# Altium footprint library Smart_Gateway_Rev1.0.PcbLib: 49 footprints (part 2 of 4)
Each footprint in its own frame and in the unit in brackets; x right, y up, seen from the top. Pads: shape width x height; smd on the part's side, far side on the other; paste and mask are expansions set on the pad; w line width, h text height; cw(c..) or ccw(c..) is an arc to the next point about the centre after c.
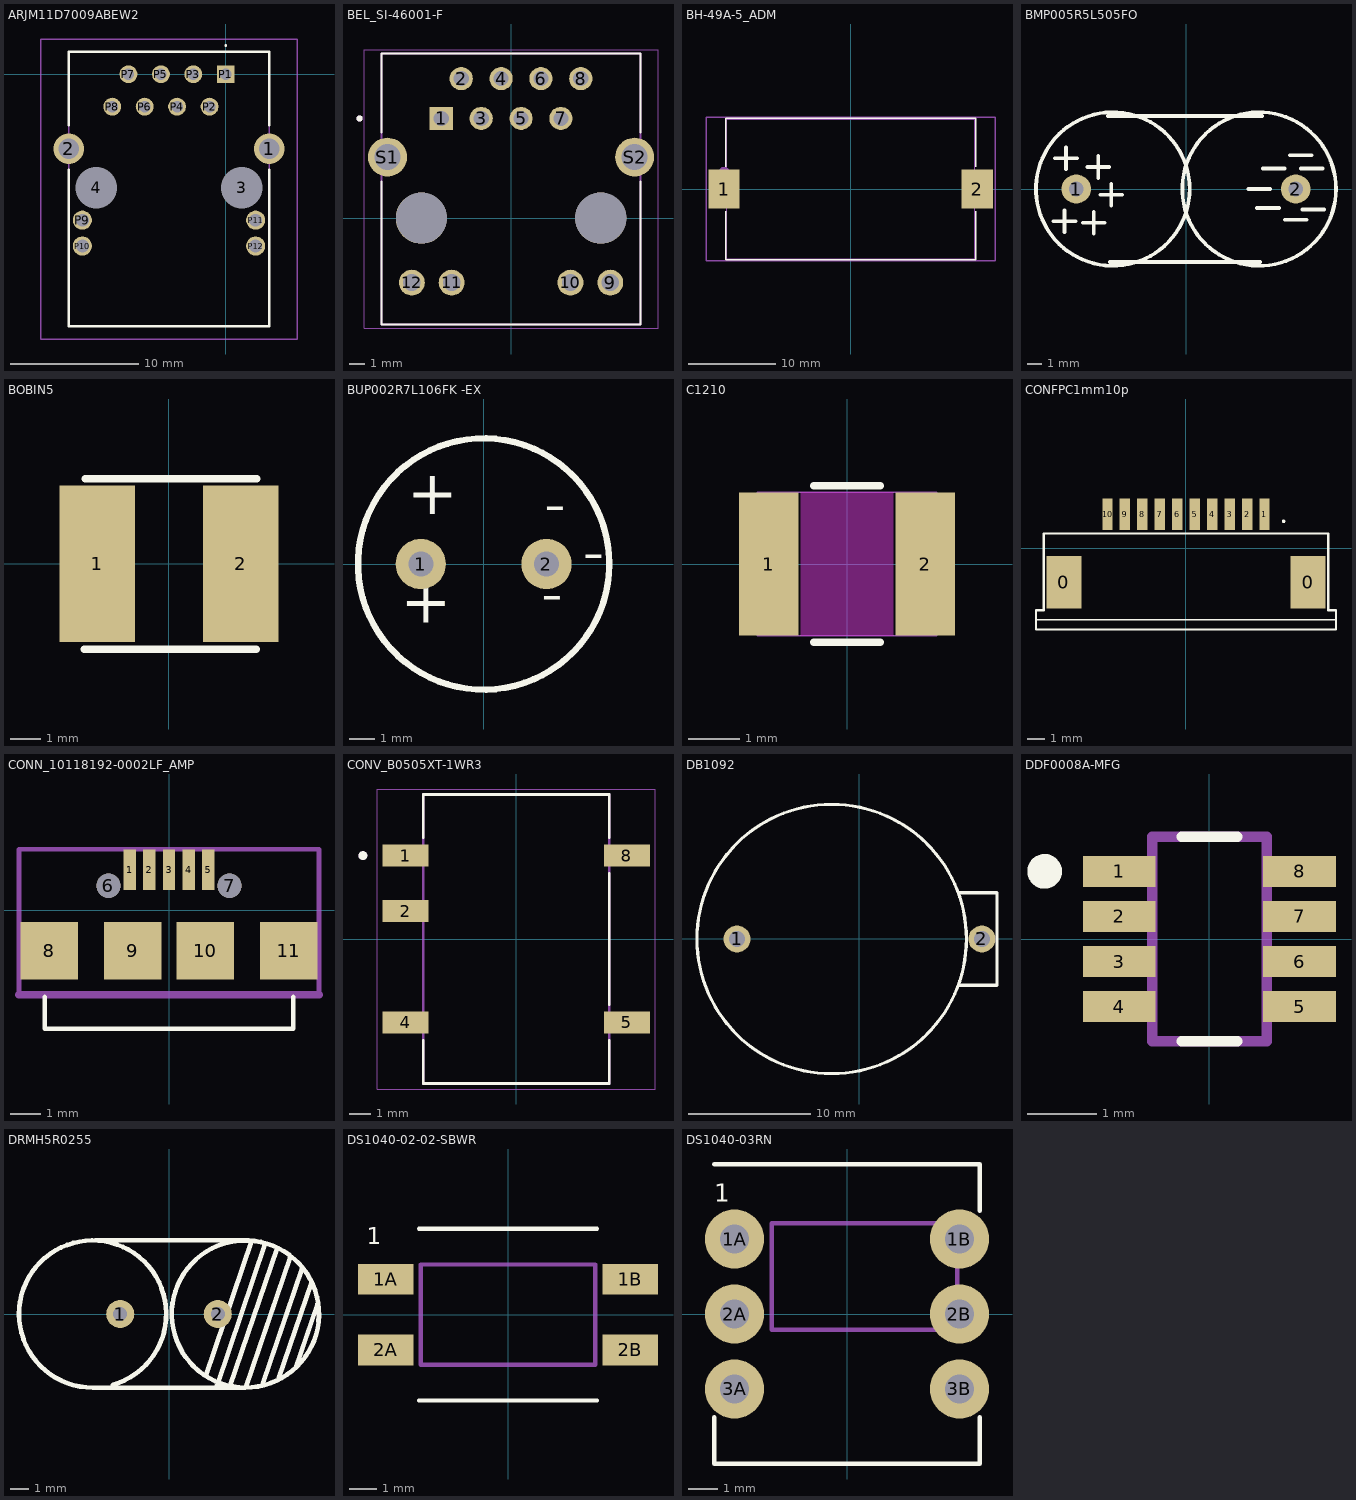
[diagram p1: the footprints below, top view; thin cyan lines are the x and y axes]

## ARJM11D7009ABEW2 [mm]
pads (16):
  round 2.4 hole 1.6: 1(3.405,-5.84) 2(-12.295,-5.84)
  round 1.625 hole 3.25 unplated: 3(1.27,-8.89) 4(-10.16,-8.89)
  rect 1.4x1.4 hole 0.9: P1(0,0)
  round 1.4 hole 0.9: P2(-1.27,-2.54) P3(-2.54,0) P4(-3.81,-2.54) P5(-5.08,0) P6(-6.35,-2.54) P7(-7.62,0) P8(-8.89,-2.54)
  round 1.5 hole 1: P9(-11.23,-11.43) P10(-11.23,-13.46) P11(2.34,-11.43) P12(2.34,-13.46)
Top Overlay:
  lines w0.1: 0,2.2 ccw(c0,2.25) 0,2.3 ccw(c0,2.25) 0,2.2
  lines w0.2: -12.295,-7.5 -12.295,-19.74 3.405,-19.74 3.405,-7.5 ; -12.295,-4 -12.295,1.76 3.405,1.76 3.405,-4
Mechanical 13:
  lines w0.1: -12.295,-19.74 3.405,-19.74 3.405,1.76 -12.295,1.76 -12.295,-19.74
Mechanical 15:
  lines w0.1: -14.495,-20.74 5.605,-20.74 5.605,2.76 -14.495,2.76 -14.495,-20.74
3D body "ARJM11D7-009-AB-EW2.stp": height 13.8, standoff -3.6, extent -12.44,-19.685 3.54,1.965

## BEL_SI-46001-F [mm]
pads (16):
  rect 1.478x1.478 hole 0.97: 1(-4.445,6.35)
  round 1.478 hole 0.97: 2(-3.175,8.89) 3(-1.905,6.35) 4(-0.635,8.89) 5(0.635,6.35) 6(1.905,8.89) 7(3.175,6.35) 8(4.445,8.89)
  round 1.65 hole 1.1: 9(6.325,-4.11) 10(3.785,-4.11) 11(-3.785,-4.11) 12(-6.325,-4.11)
  round 2.475 hole 1.65: S1(-7.875,3.89) S2(7.875,3.89)
  round 3.26 hole 3.26 unplated: ""(-5.715,0) ""(5.715,0)
Top Overlay:
  circle w0.2: c-9.655,6.35 r0.1
  lines w0.127: -8.255,2.33 -8.255,-6.78 8.255,-6.78 8.255,2.33 ; -8.255,5.45 -8.255,10.49 8.255,10.49 8.255,5.45
Mechanical 13:
  circle w0.2: c-9.655,6.35 r0.1
  lines w0.127: -8.255,-6.78 8.255,-6.78 8.255,10.49 -8.255,10.49 -8.255,-6.78
Mechanical 15:
  lines w0.05: -9.365,-7.03 9.365,-7.03 9.365,10.74 -9.365,10.74 -9.365,-7.03
3D body "SI-46001-F--3DModel-STEP-56544.STEP": height 17.27, standoff -4.19, extent -8.128,-6.731 8.128,10.287

## BH-49A-5_ADM [mil]
pads (2):
  rect 142x177 smd paste+0 mask+0: 1(-572.83,0) 2(572.83,0)
Top Overlay:
  lines w6: -566,-101.6 -566,-320 566,-320 566,-101.6 ; -566,101.6 -566,320 566,320 566,101.6
Bottom Overlay:
  circle w20: c-680,10 r15
Mechanical 13:
  circle w20: c-572.83,75 r15
  lines w1: -561,-315 -561,315 561,315 561,-315 -561,-315
Mechanical 15:
  lines w6: -653.83,-325 653.83,-325 653.83,325 -653.83,325 -653.83,-325
3D body "bh-49a-5.stp": height 216.54, standoff 0, extent -617.13,-314.96 623.03,314.96

## BMP005R5L505FO [mm]
pads (2):
  round 2 hole 1: 1(-7.5,0) 2(7.5,0)
Top Overlay:
  circle w0.254: c5,0 r5.25
  circle w0.254: c-5,0 r5.25
  lines w0.254: -9.05,-2.2 -7.55,-2.2 ; -8.95,2.1 -7.45,2.1 ; -8.3,-2.95 -8.3,-1.45 ; -8.2,1.35 -8.2,2.85 ; -7.05,-2.3 -5.55,-2.3 ; -6.75,1.5 -5.25,1.5 ; -6.3,-3.05 -6.3,-1.55 ; -6,0.75 -6,2.25 ; -5.85,-0.4 -4.35,-0.4 ; -5.328,4.988 5.192,4.988 ; -5.212,-4.988 5.075,-4.988 ; -5.1,-1.15 -5.1,0.35 ; 4.25,0 5.75,0 ; 4.85,-1.3 6.35,-1.3 ; 5.25,1.4 6.75,1.4 ; 6.75,-2.1 8.25,-2.1 ; 7.1,2.3 8.6,2.3 ; 7.85,1.4 9.35,1.4 ; 7.95,-1.4 9.45,-1.4
3D body: height 26, standoff 0, extent -5.9,-5.3 5.7,5.2
3D body: height 26, standoff 0, extent -0.2,-5.25 10.3,5.25
3D body: height 26, standoff 0, extent -10.3,-5.25 0.2,5.25

## BOBIN5 [mm]
pads (2):
  rect 2.5x5.2 smd: 1(-2.371,0) 2(2.371,0)
Top Overlay:
  lines w0.254: -2.803,-2.838 2.887,-2.838 ; -2.777,2.819 2.912,2.819
3D body "User Library-SDR0504.step": height 4.5, standoff 0, extent -2.853,-2.6 2.904,2.6

## BUP002R7L106FK -EX [mm]
pads (2):
  round 2 hole 1: 1(-2.5,0) 2(2.5,0)
Top Overlay:
  circle w0.254: c0,0 r5
  text "-" at 3.937,-0.889 h3
  text "-" at 2.286,-2.54 h3
  text "-" at 2.413,1.016 h3
  text "+" at -3.302,-2.921 h3
  text "+" at -3.048,1.397 h3
3D body: height 25, standoff 0, extent -5,-5 5,5

## C1210 [mm]
pads (2):
  rect 1.156x2.8 smd paste+0 mask+0: 1(-1.528,0) 2(1.528,0)
Top Layer keep-out:
  region: -0.899,-1.349 -0.899,1.349 0.899,1.349 0.899,-1.349
Top Overlay:
  lines w0.152: -0.642,-1.527 0.642,-1.527 ; -0.642,1.527 0.642,1.527
Keep-Out Layer:
  region: -0.899,-1.4 -0.899,1.4 0.899,1.4 0.899,-1.4
Mechanical 13:
  lines w0.025: -1.75,-1.4 -1.75,1.4 ; -1.75,-1.4 -1.25,-1.4 -1.25,1.4 -1.75,1.4 ; -1.75,-1.4 1.75,-1.4 ; -1.75,-1.4 -1.75,1.4 ; -1.75,1.4 1.75,1.4 ; 1.75,-1.4 1.25,-1.4 1.25,1.4 1.75,1.4 ; 1.75,-1.4 1.75,1.4 ; 1.75,-1.4 1.75,1.4
3D body "CAPC350280_280N_KEM.step": height 2.8, standoff 0, extent -1.75,-1.4 1.75,1.4

## CONFPC1mm10p [mm]
pads (12):
  rect 2x3 smd: 0(-7,-1.95) 0(7,-1.95)
  rect 0.6x1.8 smd: 1(4.5,1.95) 2(3.5,1.95) 3(2.5,1.95) 4(1.5,1.95) 5(0.5,1.95) 6(-0.5,1.95) 7(-1.5,1.95) 8(-2.5,1.95) 9(-3.5,1.95) 10(-4.5,1.95)
Top Overlay:
  circle w0.1: c5.6,1.55 r0.05
  lines w0.1: -8.6,-4.1 8.6,-4.1
  lines w0.127: -8.6,-4.65 -8.6,-3.55 -8.159,-3.55 -8.159,0.85 8.159,0.85 8.159,-3.55 8.6,-3.55 8.6,-4.65 -8.6,-4.65
3D body "1-84952-0.stp": height 2.57, standoff 0.01, extent -8.955,-4.13 8.955,2.41

## CONN_10118192-0002LF_AMP [mm]
pads (11):
  rect 0.406x1.346 smd paste+0 mask+0: 1(-1.3,1.339) 2(-0.65,1.339) 3(0,1.339) 4(0.65,1.339) 5(1.3,1.339)
  round 0.8 hole 0.8 unplated mask-0.8: 6(-2,0.811) 7(2,0.811)
  rect 1.9x1.9 smd paste-0.953 mask-0.953: 8(-3.95,-1.339) 9(-1.2,-1.339) 10(1.2,-1.339) 11(3.95,-1.339)
Top Overlay:
  lines w0.152: -4.099,-2.869 -4.099,-3.919 4.101,-3.919 4.101,-2.869
Mechanical 1:
  lines w0.254: -4.956,-2.789 4.956,-2.789
Mechanical 15:
  lines w0.152: -4.956,-2.789 -4.956,2.016 4.956,2.016 4.956,-2.789 -4.956,-2.789
3D body "KLS1-233_3067-47340001R-Rev_01.SLDPRT": height 2.77, standoff -0.17, extent -4.099,-3.919 4.101,2.011

## CONV_B0505XT-1WR3 [mm]
pads (5):
  rect 2.1x1 smd: 1(-5.05,3.81) 2(-5.05,1.27) 4(-5.05,-3.81) 5(5.05,-3.81) 8(5.05,3.81)
Top Overlay:
  circle w0.2: c-7,3.81 r0.1
  lines w0.127: -4.25,-4.63 -4.25,-6.6 4.25,-6.6 4.25,-4.63 ; -4.25,4.63 -4.25,6.6 4.25,6.6 4.25,4.63 ; 4.25,-2.99 4.25,2.99
Mechanical 13:
  circle w0.2: c-7,3.81 r0.1
  lines w0.127: -4.25,-6.6 4.25,-6.6 4.25,6.6 -4.25,6.6 -4.25,-6.6
Mechanical 15:
  lines w0.05: -6.35,-6.85 -6.35,6.85 6.35,6.85 6.35,-6.85 -6.35,-6.85
3D body "step_temp.STEP": height 7.25, standoff 0, extent -5.7,-6.6 5.7,6.6

## DB1092 [mm]
pads (2):
  round 2.2 hole 1.3: 1(-10,0) 2(10,0)
Top Overlay:
  circle w0.254: c-2.269,0 r11
  lines w0.254: 8.161,3.775 11.231,3.775 11.231,-3.775 8.207,-3.775
3D body "User Library-CR2032_HOR_HOLD.step": height 8.5, standoff -4, extent -13.269,-11 11.231,11

## DDF0008A-MFG [mm]
pads (8):
  rect 1.05x0.45 smd paste+0 mask+0: 1(-1.3,0.975) 2(-1.3,0.325) 3(-1.3,-0.325) 4(-1.3,-0.975) 5(1.3,-0.975) 6(1.3,-0.325) 7(1.3,0.325) 8(1.3,0.975)
Top Overlay:
  circle w0.25: c-2.375,0.975 r0.125
  lines w0.15: -0.4,-1.475 0.4,-1.475 ; -0.4,1.475 0.4,1.475
Mechanical 13:
  lines w0.15: -0.825,-1.475 -0.825,1.475 0.825,1.475 0.825,-1.475 -0.825,-1.475
3D body "DDF0008A.stp": height 0.9, standoff 0, extent -1.427,-1.419 1.392,1.481

## DMG32240C024_03WN [mm]
3D body "3d-dmg32240c024-03wn.stp": height 5.5, standoff -5, extent -23.012,-38.79 24.74,37.41

## DRMH5R0255 [mil]
pads (2):
  round 60 hole 30: 1(-104.33,0) 2(104.33,0)
Top Overlay:
  lines w10: -157.48,157.48 157.48,157.48 ; -119.87,-151.35 ccw(c-163.39,0) -163.39,-157.48 163.39,-157.48 ccw(c163.39,0) 150.23,-156.93 ; 78.73,-132.26 177.08,156.99 ; 102.76,-152.36 205.49,151.44 ; 129.84,-155.37 231.1,141.34 ; 164.32,-156.99 258.93,121.27 ; 200.6,-149.11 284.86,98.71 ; 235.09,-136.77 304.9,68.54 ; 271.13,-115.19 317.67,21.68
3D body: height 1023.62, standoff 0, extent -320.86,-157.48 -5.9,157.48
3D body: height 1023.62, standoff 0, extent 5.91,-157.48 320.87,157.48
3D body: height 1023.62, standoff 0, extent -157.48,-157.48 157.48,157.48

## DS1040-02-02-SBWR [mm]
pads (4):
  rect 2x1.1 smd paste-0.711 mask-0.711: 1A(-4.4,1.27) 1B(4.4,1.27) 2A(-4.4,-1.27) 2B(4.4,-1.27)
Top Overlay:
  lines w0.152: -3.2,-3.09 3.2,-3.09 ; -3.2,3.09 3.2,3.09
  text "1" at -5.08,2.54 h0.6
Mechanical 13:
  text "*" at -5.08,2.54 h1.27
Mechanical 15:
  lines w0.152: -3.137,-1.803 -3.137,1.803 3.137,1.803 3.137,-1.803 -3.137,-1.803
3D body "step_temp.STEP": height 4.58, standoff 0, extent -5.055,-3.275 4.855,3.275

## DS1040-03RN [mm]
pads (6):
  round 2 hole 0.97 paste-0.711 mask-0.711: 1A(-3.81,2.54) 1B(3.81,2.54) 2A(-3.81,0) 2B(3.81,0) 3A(-3.81,-2.54) 3B(3.81,-2.54)
Top Overlay:
  lines w0.152: -4.5,-3.5 -4.5,-5.08 4.5,-5.08 4.5,-3.5 ; -4.5,5.08 4.5,5.08 4.5,3.5
  text "1" at -4.49,3.81 h0.6
Mechanical 13:
  text "*" at -4.49,3.81 h1.27
Mechanical 15:
  lines w0.152: -2.547,-0.533 -2.547,3.073 3.727,3.073 3.727,-0.533 -2.547,-0.533
3D body "A6E_3104_N.step": height 7.05, standoff -3.2, extent -4.97,-4.49 4.93,4.49